# EAGLE library part SLG46880A (library GREENPAK)
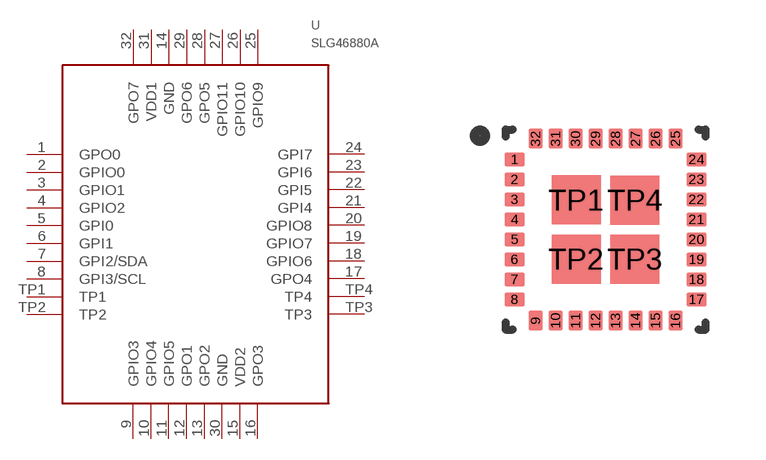
[diagram p58: symbol with the pads of STQFN-32-5.0X5.0-A; footprint STQFN-32-5.0X5.0-A]

Designator prefix -

## SLG46880A  [STQFN-32-5.0X5.0-A]
1  GPO0  out
2  GPIO0
3  GPIO1
4  GPIO2
5  GPI0  in
6  GPI1  in
7  GPI2/SDA  in
8  GPI3/SCL  in
9  GPIO3
10  GPIO4
11  GPIO5
12  GPO1
13  GPO2
14  GND  pwr
15  VDD2  pwr
16  GPO3
17  GPO4  out
18  GPIO6
19  GPIO7
20  GPIO8
21  GPI4  in
22  GPI5  in
23  GPI6  in
24  GPI7  in
25  GPIO9
26  GPIO10
27  GPIO11
28  GPO5
29  GPO6
30  GND  pwr
31  VDD1  pwr
32  GPO7  out
TP1  TP1  out
TP2  TP2  out
TP3  TP3  out
TP4  TP4  out

## Footprint STQFN-32-5.0X5.0-A (pad centres in mm)
smd 0.5 x 0.35: 1 -2.276,1.751; 2 -2.276,1.251; 3 -2.276,0.751; 4 -2.276,0.251; 5 -2.276,-0.249; 6 -2.276,-0.749; 7 -2.276,-1.249; 8 -2.276,-1.749; 17 2.274,-1.749; 18 2.274,-1.249; 19 2.274,-0.749; 20 2.274,-0.249; 21 2.274,0.251; 22 2.274,0.751; 23 2.274,1.251; 24 2.274,1.751
smd 0.35 x 0.5: 9 -1.751,-2.274; 10 -1.251,-2.274; 11 -0.751,-2.274; 12 -0.251,-2.274; 13 0.249,-2.274; 14 0.749,-2.274; 15 1.249,-2.274; 16 1.749,-2.274; 25 1.749,2.276; 26 1.249,2.276; 27 0.749,2.276; 28 0.249,2.276; 29 -0.251,2.276; 30 -0.751,2.276; 31 -1.251,2.276; 32 -1.751,2.276
smd 1.225 x 1.225: TP1 -0.738,0.738; TP2 -0.738,-0.737; TP3 0.736,-0.737; TP4 0.736,0.738